# Altium schematic symbol library Mixers.SchLib: 26 symbols
Pins are listed as number, name and electrical type; pins without a type are passive.

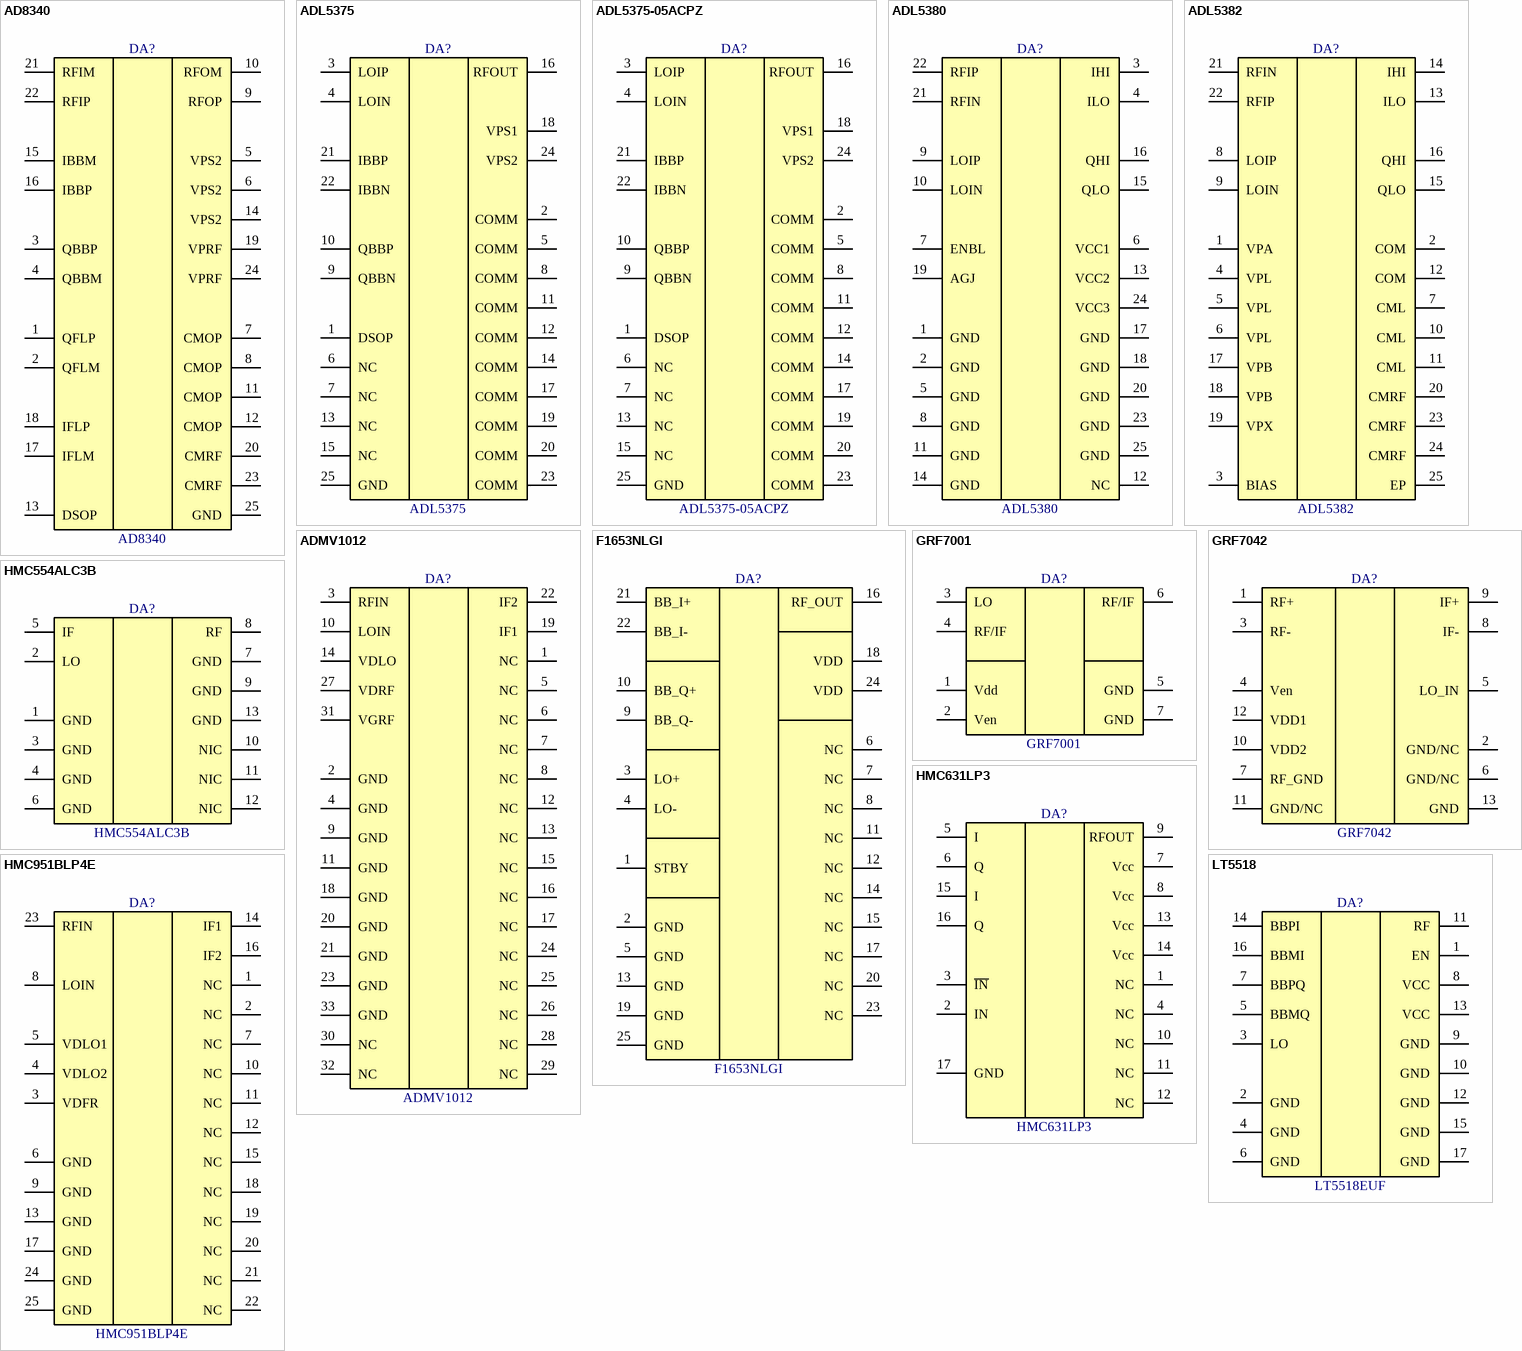
[diagram p0: symbols AD8340 to LT5518]

## AD8340
designator DA?
00 MHz to 1000 MHz RF Vector Modulator; Manufacturer: Analog Devices; PartNumber: AD8340; ComponentLink1Description: Product Page; ComponentLink1URL: https://www.analog.com/en/products/ad8340.html; ComponentLink2Description: DataSheet; ComponentLink2URL: https://www.analog.com/media/en/technical-documentation/data-sheets/AD8340.pdf
footprint QFN50P400X400X80_HS-25N (QFN, 24-Leads, Body 4.00x4.00mm, Pitch 0.50mm, Thermal Pad 2.05x2.05mm, IPC Medium Density)
pins: 1 QFLP, 2 QFLM, 3 QBBP, 4 QBBM, 5 VPS2, 6 VPS2, 7 CMOP, 8 CMOP, 9 RFOP, 10 RFOM, 11 CMOP, 12 CMOP, 13 DSOP, 14 VPS2, 15 IBBM, 16 IBBP, 17 IFLM, 18 IFLP, 19 VPRF, 20 CMRF, 21 RFIM, 22 RFIP, 23 CMRF, 24 VPRF, 25 GND

## ADL5375
designator DA?
00 MHz to 6 GHz Broadband Quadrature Modulator; Manufacturer: Analog Devices; PartNumber: ADL5375; ComponentLink1Description: Product Page; ComponentLink1URL: https://www.analog.com/en/products/adl5375.html; ComponentLink2Description: DataSheet; ComponentLink2URL: https://www.analog.com/media/en/technical-documentation/data-sheets/ADL5375.pdf
footprint QFN25P50_400X400X80L40X24T250N (Quad Flat No-Lead (QFN with Tab), 0.50 mm pitch; square, 6 pin X 6 pin, 4.00 mm L X 4.00 mm W X 0.80 mm H body)
pins: 1 DSOP, 2 COMM, 3 LOIP, 4 LOIN, 5 COMM, 6 NC, 7 NC, 8 COMM, 9 QBBN, 10 QBBP, 11 COMM, 12 COMM, 13 NC, 14 COMM, 15 NC, 16 RFOUT, 17 COMM, 18 VPS1, 19 COMM, 20 COMM, 21 IBBP, 22 IBBN, 23 COMM, 24 VPS2, 25 GND

## ADL5375-05ACPZ
designator DA?
00 MHz to 6 GHz Broadband Quadrature Modulator, 500mA Bias; Manufacturer: Analog Devices; PartNumber: ADL5375-05ACPZ; ComponentLink1Description: Product Page; ComponentLink1URL: https://www.analog.com/en/products/adl5375.html; ComponentLink2Description: DataSheet; ComponentLink2URL: https://www.analog.com/media/en/technical-documentation/data-sheets/ADL5375.pdf
footprint QFN25P50_400X400X80L40X24T250N (Quad Flat No-Lead (QFN with Tab), 0.50 mm pitch; square, 6 pin X 6 pin, 4.00 mm L X 4.00 mm W X 0.80 mm H body)
pins: 1 DSOP, 2 COMM, 3 LOIP, 4 LOIN, 5 COMM, 6 NC, 7 NC, 8 COMM, 9 QBBN, 10 QBBP, 11 COMM, 12 COMM, 13 NC, 14 COMM, 15 NC, 16 RFOUT, 17 COMM, 18 VPS1, 19 COMM, 20 COMM, 21 IBBP, 22 IBBN, 23 COMM, 24 VPS2, 25 GND

## ADL5380
designator DA?
400 MHz to 6 GHz Quadrature Demodulator; Manufacturer: Analog Devices; PartNumber: ADL5380; ComponentLink1Description: Product Page; ComponentLink1URL: https://www.analog.com/en/products/adl5380.html; ComponentLink2Description: DataSheet; ComponentLink2URL: https://www.analog.com/media/en/technical-documentation/data-sheets/ADL5380.pdf
footprint QFN25P50_400X400X80L40X24T255N (Quad Flat No-Lead (QFN with Tab), 0.50 mm pitch; square, 6 pin X 6 pin, 4.00 mm L X 4.00 mm W X 0.80 mm H body)
pins: 1 GND, 2 GND, 3 IHI, 4 ILO, 5 GND, 6 VCC1, 7 ENBL, 8 GND, 9 LOIP, 10 LOIN, 11 GND, 12 NC, 13 VCC2, 14 GND, 15 QLO, 16 QHI, 17 GND, 18 GND, 19 AGJ, 20 GND, 21 RFIN, 22 RFIP, 23 GND, 24 VCC3, 25 GND

## ADL5382
designator DA?
700 MHz to 2.7 GHz Quadrature Demodulator; Manufacturer: Analog Devices; PartNumber: ADL5382; ComponentLink1Description: Product Page; ComponentLink1URL: https://www.analog.com/en/products/adl5382.html; ComponentLink2Description: DataSheet; ComponentLink2URL: https://www.analog.com/media/en/technical-documentation/data-sheets/ADL5382.pdf
footprint ADL5382 (AD 24-Lead Lead Frame Chip Scale Package  [LFCSP_VQ] 4 mm ? 4 mm Body, Very Thin Quad  (CP-24-2))
pins: 1 VPA, 2 COM, 3 BIAS, 4 VPL, 5 VPL, 6 VPL, 7 CML, 8 LOIP, 9 LOIN, 10 CML, 11 CML, 12 COM, 13 ILO, 14 IHI, 15 QLO, 16 QHI, 17 VPB, 18 VPB, 19 VPX, 20 CMRF, 21 RFIN, 22 RFIP, 23 CMRF, 24 CMRF, 25 EP

## ADMV1012
designator DA?
17.5 GHz to 24 GHz, GaAs, MMIC, I/Q Downconverter; Manufacturer: Analog Devices; PartNumber: ADMV1012; ComponentLink1Description: Product Page; ComponentLink1URL: https://www.analog.com/en/products/admv1012.html; ComponentLink2Description: DataSheet; ComponentLink2URL: https://www.analog.com/media/en/technical-documentation/data-sheets/admv1012.pdf
footprint PQFN33P50_490X490X110L32X30T350N (Pullback Quad Flat No-Lead (PQFN with Tab), 0.50 mm pitch; square, 8 pin X 8 pin, 4.90 mm L X 4.90 mm W X 1.10 mm H body)
pins: 1 NC, 2 GND, 3 RFIN, 4 GND, 5 NC, 6 NC, 7 NC, 8 NC, 9 GND, 10 LOIN, 11 GND, 12 NC, 13 NC, 14 VDLO, 15 NC, 16 NC, 17 NC, 18 GND, 19 IF1, 20 GND, 21 GND, 22 IF2, 23 GND, 24 NC, 25 NC, 26 NC, 27 VDRF, 28 NC, 29 NC, 30 NC, 31 VGRF, 32 NC, 33 GND

## F1653NLGI
designator DA?
Broadband ZIF/CIF I/Q Modulator for High Order LTE MIMO Systems; Manufacturer: Renesas; PartNumber: F1653NLGI; ComponentLink1Description: Product Page; ComponentLink1URL: https://www.renesas.com/us/en/products/rf-products/modulators-demodulators/f1653-broadband-zifcif-iq-modulator-high-order-lte-mimo-systems; ComponentLink2Description: DataSheet; ComponentLink2URL: https://www.renesas.com/us/en/document/dst/f1653-datasheet-revo?r=162266
footprint QFN25P50_400X400X100L40X24T245N (Quad Flat No-Lead (QFN with Tab), 0.50 mm pitch; square, 6 pin X 6 pin, 4.00 mm L X 4.00 mm W X 1.00 mm H body)
pins: 1 STBY, 2 GND, 3 LO+, 4 LO-, 5 GND, 6 NC, 7 NC, 8 NC, 9 BB_Q-, 10 BB_Q+, 11 NC, 12 NC, 13 GND, 14 NC, 15 NC, 16 RF_OUT, 17 NC, 18 VDD, 19 GND, 20 NC, 21 BB_I+, 22 BB_I-, 23 NC, 24 VDD, 25 GND

## GRF7001
designator DA?
High Linearity Mixer with / Integrated LO Buffer; Manufacturer: Guerilla RF; PartNumber: GRF7001; ComponentLink1Description: Product Page; ComponentLink1URL: https://www.guerrilla-rf.com/products/detail/sku/GRF7001; ComponentLink2Description: DataSheet; ComponentLink2URL: https://www.guerrilla-rf.com/products/DataSheet?sku=7001&file_name=GRF7001DS.pdf
footprint GRF7001
pins: 1 Vdd, 2 Ven, 3 LO, 4 RF/IF, 5 GND, 6 RF/IF, 7 GND

## GRF7042
designator DA?
Double-Balanced Mixer with Integrated LO Buffer; Manufacturer: Guerilla RF; PartNumber: GRF7042; ComponentLink1Description: Product Page; ComponentLink1URL: https://www.guerrilla-rf.com/products/detail/sku/GRF7042; ComponentLink2Description: DataSheet; ComponentLink2URL: https://www.guerrilla-rf.com/products/DataSheet?sku=7042&file_name=GRF7042DS.pdf
footprint GRF7042 (Quad Flat No-Lead (QFN with Tab), 0.50 mm pitch; square, 3 pin X 3 pin, 2.00 mm L X 2.00 mm W X 0.50 mm H body)
pins: 1 RF+, 2 GND/NC, 3 RF-, 4 Ven, 5 LO_IN, 6 GND/NC, 7 RF_GND, 8 IF-, 9 IF+, 10 VDD2, 11 GND/NC, 12 VDD1, 13 GND

## HMC554ALC3B
designator DA?
10 GHz to 20 GHz, GaAs, MMIC, Double Balanced Mixer; Manufacturer: Analog Devices; PartNumber: HMC554ALC3B; ComponentLink1Description: Product Page; ComponentLink1URL: https://www.analog.com/en/products/hmc554alc3b.html; ComponentLink2Description: DataSheet; ComponentLink2URL: https://www.analog.com/media/en/technical-documentation/data-sheets/hmc554a.pdf
footprint PQFN13P50_290X290X90L32X30T150N (Pullback Quad Flat No-Lead (PQFN with Tab), 0.50 mm pitch; square, 3 pin X 3 pin, 2.90 mm L X 2.90 mm W X 0.90 mm H body)
pins: 1 GND, 2 LO, 3 GND, 4 GND, 5 IF, 6 GND, 7 GND, 8 RF, 9 GND, 10 NIC, 11 NIC, 12 NIC, 13 GND

## HMC631LP3
designator DA?
GaAs HBT VECTOR MODULATOR 1.8 - 2.7 GHz; Manufacturer: Analog Devices; PartNumber: HMC631LP3; ComponentLink1Description: Product Page; ComponentLink1URL: https://www.analog.com/en/products/hmc631.html; ComponentLink2Description: DataSheet; ComponentLink2URL: https://www.analog.com/media/en/technical-documentation/data-sheets/hmc631.pdf
footprint QFN17P50_300X300X100L40X24T173N (Quad Flat No-Lead (QFN with Tab), 0.50 mm pitch; square, 4 pin X 4 pin, 3.00 mm L X 3.00 mm W X 1.00 mm H body)
pins: 1 NC, 2 IN, 3 ~{IN}, 4 NC, 5 I, 6 Q, 7 Vcc, 8 Vcc, 9 RFOUT, 10 NC, 11 NC, 12 NC, 13 Vcc, 14 Vcc, 15 I, 16 Q, 17 GND

## HMC951BLP4E
designator DA?
GaAs MMIC I/Q Downconverter 5.6 - 8.6 GHz; Manufacturer: Analog Devices; PartNumber: HMC951BLP4E; ComponentLink1Description: Product Page; ComponentLink1URL: https://www.analog.com/en/products/hmc951b.html; ComponentLink2Description: DataSheet; ComponentLink2URL: https://www.analog.com/media/en/technical-documentation/data-sheets/HMC951B.pdf
footprint QFN25P50_400X400X100L40X24T280N (Quad Flat No-Lead (QFN with Tab), 0.50 mm pitch; square, 6 pin X 6 pin, 4.00 mm L X 4.00 mm W X 1.00 mm H body)
pins: 1 NC, 2 NC, 3 VDFR, 4 VDLO2, 5 VDLO1, 6 GND, 7 NC, 8 LOIN, 9 GND, 10 NC, 11 NC, 12 NC, 13 GND, 14 IF1, 15 NC, 16 IF2, 17 GND, 18 NC, 19 NC, 20 NC, 21 NC, 22 NC, 23 RFIN, 24 GND, 25 GND

## LT5518
designator DA?, comment LT5518EUF
1.5GHz–2.4GHz High Linearity Direct Quadrature Modulator; Manufacturer: Analog Devices; PartNumber: LT5518EUF; ComponentLink1Description: Product Page; ComponentLink1URL: https://www.analog.com/en/products/lt5518.html; ComponentLink2Description: DataSheet; ComponentLink2URL: https://www.analog.com/media/en/technical-documentation/data-sheets/5518f.pdf
footprint QFN17P65_400X400X80L55X30T215N (Quad Flat No-Lead (QFN with Tab), 0.65 mm pitch; square, 4 pin X 4 pin, 4.00 mm L X 4.00 mm W X 0.80 mm H body)
pins: 1 EN, 2 GND, 3 LO, 4 GND, 5 BBMQ, 6 GND, 7 BBPQ, 8 VCC, 9 GND, 10 GND, 11 RF, 12 GND, 13 VCC, 14 BBPI, 15 GND, 16 BBMI, 17 GND

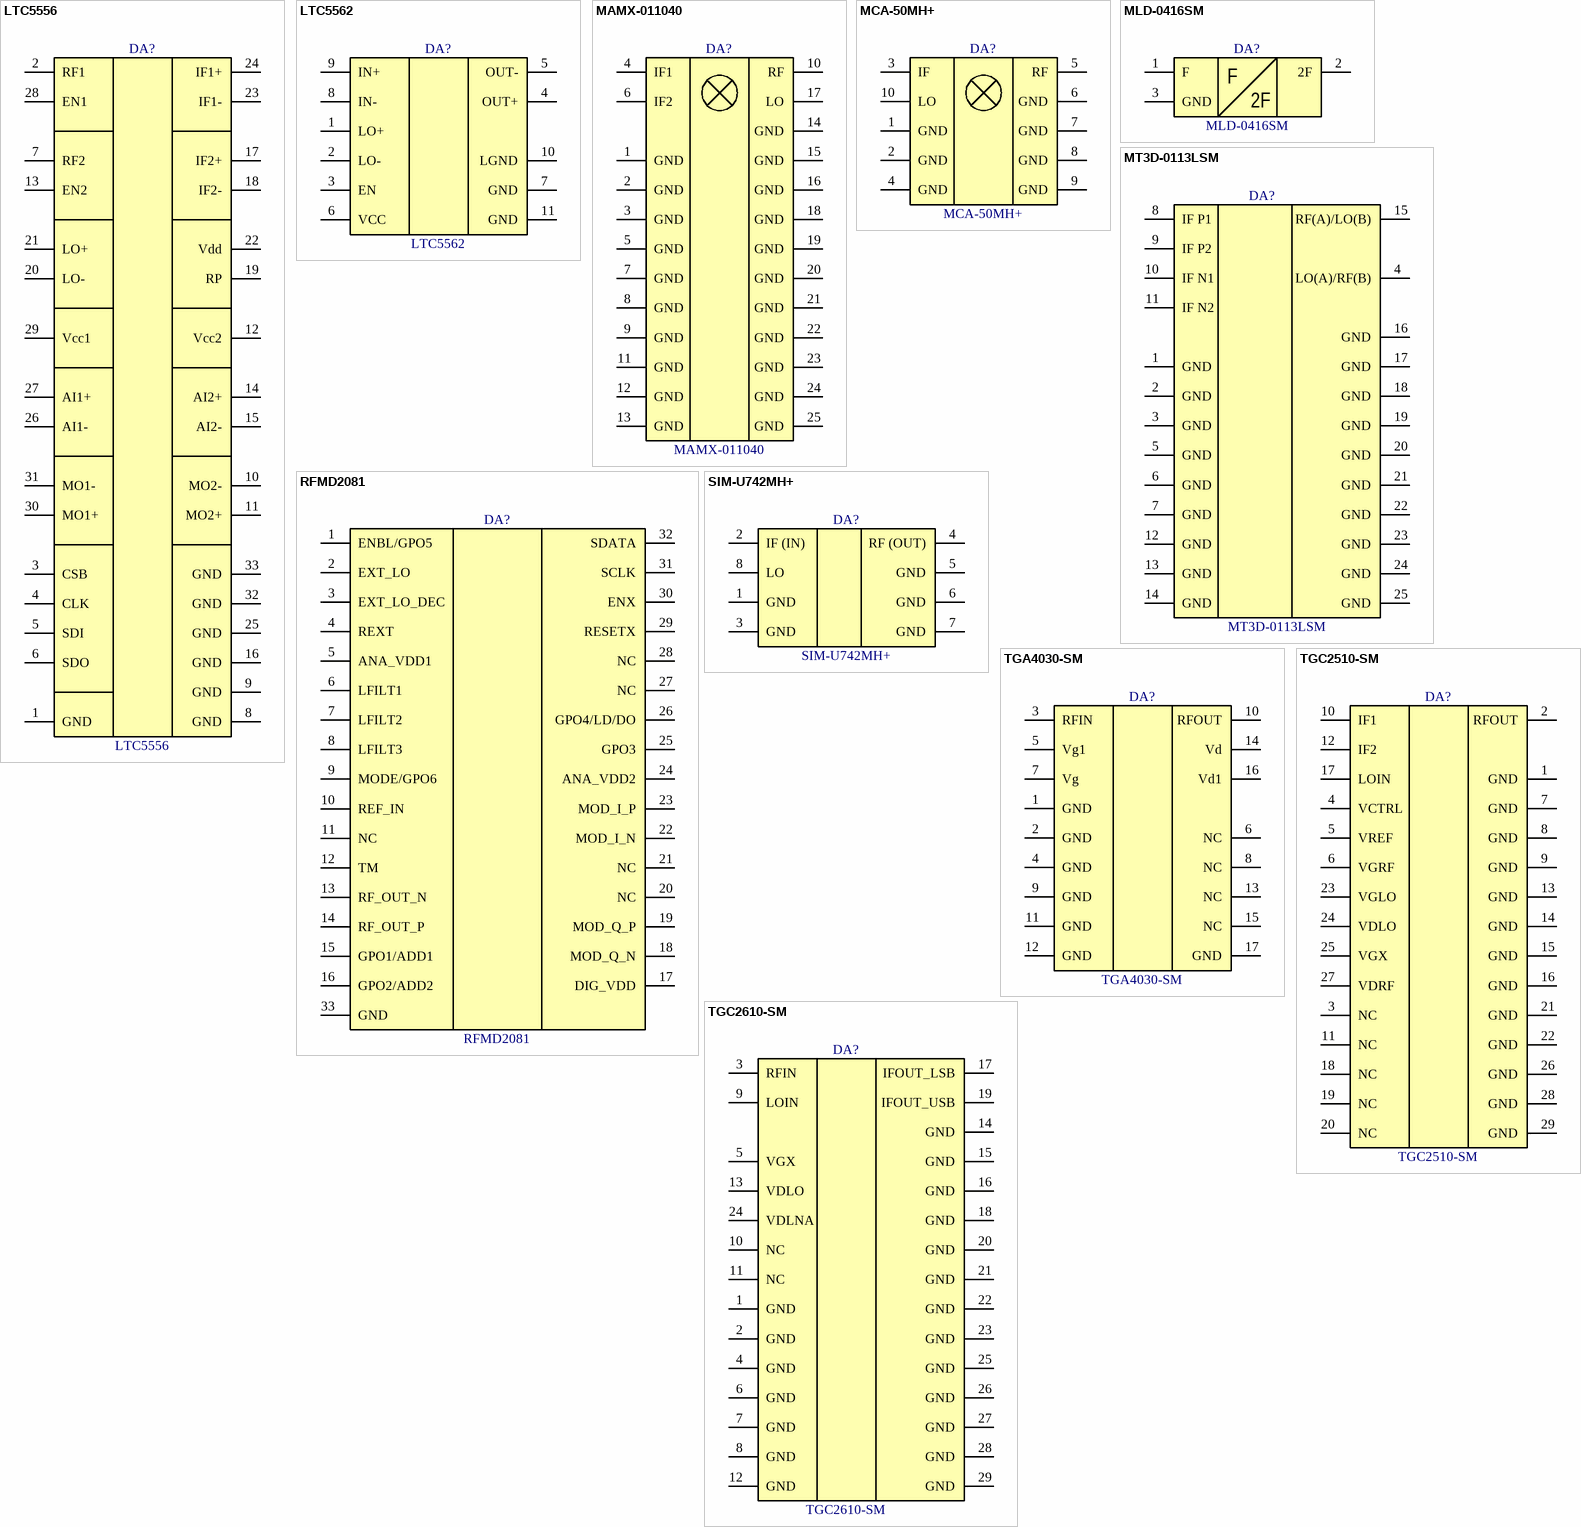
[diagram p1: symbols LTC5556 to TGC2610-SM]

## LTC5556
designator DA?
1.5GHz to 7GHz Dual / Programmable Gain / Downconverting Mixer; Manufacturer: Analog Devices; PartNumber: LTC5556; ComponentLink1Description: Product Page; ComponentLink1URL: https://www.analog.com/en/products/ltc5556.html; ComponentLink2Description: DataSheet; ComponentLink2URL: https://www.analog.com/media/en/technical-documentation/data-sheets/ltc5556.pdf
footprint LTC5556
pins: 1 GND, 2 RF1, 3 CSB, 4 CLK, 5 SDI, 6 SDO, 7 RF2, 8 GND, 9 GND, 10 MO2-, 11 MO2+, 12 Vcc2, 13 EN2, 14 AI2+, 15 AI2-, 16 GND, 17 IF2+, 18 IF2-, 19 RP, 20 LO-, 21 LO+, 22 Vdd, 23 IF1-, 24 IF1+, 25 GND, 26 AI1-, 27 AI1+, 28 EN1, 29 Vcc1, 30 MO1+, 31 MO1-, 32 GND, 33 GND

## LTC5562
designator DA?
Wideband Low Power Active Mixer LF–7GHz; Manufacturer: Analog Devices; PartNumber: LTC5562; ComponentLink1Description: Product Page; ComponentLink1URL: https://www.analog.com/en/products/ltc5562.html; ComponentLink2Description: DataSheet; ComponentLink2URL: https://www.analog.com/media/en/technical-documentation/data-sheets/5562f.pdf
footprint QFN11P50_200X200X80L40X25T50X30N (Quad Flat No-Lead (QFN with Tab), 0.50 mm pitch; square, 2 pin X 3 pin, 2.00 mm L X 2.00 mm W X 0.80 mm H body)
pins: 1 LO+, 2 LO-, 3 EN, 4 OUT+, 5 OUT-, 6 VCC, 7 GND, 8 IN-, 9 IN+, 10 LGND, 11 GND

## MAMX-011040
designator DA?
Image Reject Mixer 8 - 26 GHz; Manufacturer: MACOM; PartNumber: MAMX-011040; ComponentLink1Description: Product Page; ComponentLink1URL: https://www.macom.com/products/product-detail/MAMX-011040; ComponentLink2Description: DataSheet; ComponentLink2URL: https://cdn.macom.com/datasheets/MAMX-011040.pdf
footprint QFN25P50_400X400X120L40X30T200N (Quad Flat No-Lead (QFN with Tab), 0.50 mm pitch; square, 6 pin X 6 pin, 4.00 mm L X 4.00 mm W X 1.20 mm H body)
pins: 1 GND, 2 GND, 3 GND, 4 IF1, 5 GND, 6 IF2, 7 GND, 8 GND, 9 GND, 10 RF, 11 GND, 12 GND, 13 GND, 14 GND, 15 GND, 16 GND, 17 LO, 18 GND, 19 GND, 20 GND, 21 GND, 22 GND, 23 GND, 24 GND, 25 GND

## MCA-50MH+
designator DA?
High IP3 Frequency Mixer wide band Level 13 (LO Power+13 dBm) 1000 to 5000 MHz; Manufacturer: Mini-Circuits; PartNumber: MCA-50MH+; ComponentLink1Description: Product Page; ComponentLink1URL: https://www.minicircuits.com/WebStore/dashboard.html?model=MCA-50MH%2B; ComponentLink2Description: DataSheet; ComponentLink2URL: https://www.minicircuits.com/WebStore/dashboardPdf?model=MCA-50MH%2B
footprint DZ883 (Mini-Circuits case DZ883)
pins: 1 GND, 2 GND, 3 IF, 4 GND, 5 RF, 6 GND, 7 GND, 8 GND, 9 GND, 10 LO

## MLD-0416SM
designator DA?
Frequency Doubler 2.0-8.0 GHz; Manufacturer: Marki; PartNumber: MLD-0416SM; ComponentLink1Description: Product Page; ComponentLink1URL: https://www.markimicrowave.com/multipliers/mld-0416sm.aspx; ComponentLink2Description: DataSheet; ComponentLink2URL: https://www.markimicrowave.com/Assets/datasheets/MLD-0416SM.pdf
footprint MLD-0416SM (Marki SMT (0.152” x 0.090” x 0.045”))
pins: 1 F, 2 2F, 3 GND

## MT3D-0113LSM
designator DA?
GaAs MMIC T3 Mixer with Differential IF; Manufacturer: Marki; PartNumber: MT3D-0113LSM; ComponentLink1Description: Product Page; ComponentLink1URL: https://www.markimicrowave.com/mixers/mt3d-0113lsm.aspx; ComponentLink2Description: DataSheet; ComponentLink2URL: https://www.markimicrowave.com/Assets/DataSheets/MT3D-0113LSM.pdf?v=111422
footprint QFN50P390X390X90_HS-25N (QFN, 24-Leads, Body 3.90x3.90mm, Pitch 0.50mm, Thermal Pad 2.50x2.50mm, IPC Medium Density)
pins: 1 GND, 2 GND, 3 GND, 4 LO(A)/RF(B), 5 GND, 6 GND, 7 GND, 8 IF P1, 9 IF P2, 10 IF N1, 11 IF N2, 12 GND, 13 GND, 14 GND, 15 RF(A)/LO(B), 16 GND, 17 GND, 18 GND, 19 GND, 20 GND, 21 GND, 22 GND, 23 GND, 24 GND, 25 GND

## RFMD2081
designator DA?
45MHz TO 2700MHz IQ MODULATOR WITH SYNTHESIZER/VCO; Manufacturer: Qorvo; PartNumber: RFMD2081; ComponentLink1Description: Product Page; ComponentLink1URL: https://www.qorvo.com/products/p/RFMD2081; ComponentLink2Description: DataSheet; ComponentLink2URL: https://www.qorvo.com/products/d/da000929
footprint QFN50P500X500X95_HS-33N (QFN, 32-Leads, Body 5.00x5.00mm, Pitch 0.50mm, Thermal Pad 3.70x3.70mm, IPC Medium Density)
pins: 1 ENBL/GPO5, 2 EXT_LO, 3 EXT_LO_DEC, 4 REXT, 5 ANA_VDD1, 6 LFILT1, 7 LFILT2, 8 LFILT3, 9 MODE/GPO6, 10 REF_IN, 11 NC, 12 TM, 13 RF_OUT_N, 14 RF_OUT_P, 15 GPO1/ADD1, 16 GPO2/ADD2, 17 DIG_VDD, 18 MOD_Q_N, 19 MOD_Q_P, 20 NC, 21 NC, 22 MOD_I_N, 23 MOD_I_P, 24 ANA_VDD2, 25 GPO3, 26 GPO4/LD/DO, 27 NC, 28 NC, 29 RESETX, 30 ENX, 31 SCLK, 32 SDATA, 33 GND

## SIM-U742MH+
designator DA?
Up Converter Level 13  (LO Power +13 dBm)   0.1 to 7400 MHz; Manufacturer: Mini-Circuits; PartNumber: SIM-U742MH+; ComponentLink1Description: Product Page; ComponentLink1URL: https://www.minicircuits.com/WebStore/dashboard.html?model=SIM-U742MH%2B; ComponentLink2Description: DataSheet; ComponentLink2URL: https://www.minicircuits.com/WebStore/dashboardPdf?model=SIM-U742MH%2B
footprint HV1195 (Mini-Circuits CASE HV1195)
pins: 1 GND, 2 IF (IN), 3 GND, 4 RF (OUT), 5 GND, 6 GND, 7 GND, 8 LO

## TGA4030-SM
designator DA?
17 – 37 GHz MPA/Multiplier; Manufacturer: Qorvo; PartNumber: TGA4030-SM; ComponentLink1Description: Product Page; ComponentLink1URL: https://www.qorvo.com/products/p/TGA4030-SM; ComponentLink2Description: DataSheet; ComponentLink2URL: https://www.qorvo.com/products/d/da004461
footprint QFN17P50_300X300X115L40X25T170N (Quad Flat No-Lead (QFN with Tab), 0.50 mm pitch; square, 4 pin X 4 pin, 3.00 mm L X 3.00 mm W X 1.15 mm H body)
pins: 1 GND, 2 GND, 3 RFIN, 4 GND, 5 Vg1, 6 NC, 7 Vg, 8 NC, 9 GND, 10 RFOUT, 11 GND, 12 GND, 13 NC, 14 Vd, 15 NC, 16 Vd1, 17 GND

## TGC2510-SM
designator DA?
Ku-Band Upconverter; Manufacturer: Qorvo; PartNumber: TGC2510-SM; ComponentLink1Description: Product Page; ComponentLink1URL: https://www.qorvo.com/products/p/TGC2510-SM; ComponentLink2Description: DataSheet; ComponentLink2URL: https://www.qorvo.com/products/d/da004760
footprint TGC2510-SM
pins: 1 GND, 2 RFOUT, 3 NC, 4 VCTRL, 5 VREF, 6 VGRF, 7 GND, 8 GND, 9 GND, 10 IF1, 11 NC, 12 IF2, 13 GND, 14 GND, 15 GND, 16 GND, 17 LOIN, 18 NC, 19 NC, 20 NC, 21 GND, 22 GND, 23 VGLO, 24 VDLO, 25 VGX, 26 GND, 27 VDRF, 28 GND, 29 GND

## TGC2610-SM
designator DA?
10 GHz – 15.4 GHz Downconverter; Manufacturer: Qorvo; PartNumber: TGC2610-SM; ComponentLink1Description: Product Page; ComponentLink1URL: https://www.qorvo.com/products/p/TGC2610-SM; ComponentLink2Description: DataSheet; ComponentLink2URL: https://www.qorvo.com/products/d/da004765
footprint TGC2610-SM
pins: 1 GND, 2 GND, 3 RFIN, 4 GND, 5 VGX, 6 GND, 7 GND, 8 GND, 9 LOIN, 10 NC, 11 NC, 12 GND, 13 VDLO, 14 GND, 15 GND, 16 GND, 17 IFOUT_LSB, 18 GND, 19 IFOUT_USB, 20 GND, 21 GND, 22 GND, 23 GND, 24 VDLNA, 25 GND, 26 GND, 27 GND, 28 GND, 29 GND

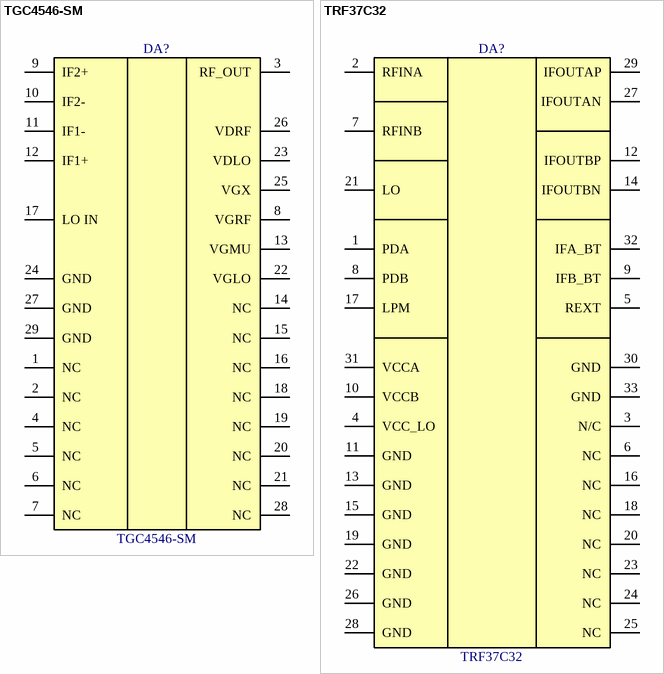
[diagram p2: symbols TGC4546-SM to TRF37C32]

## TGC4546-SM
designator DA?
36 – 45 GHz Upconverter with Quadrupler; Manufacturer: Qorvo; PartNumber: TGC4546-SM; ComponentLink1Description: Product Page; ComponentLink1URL: https://www.qorvo.com/products/p/TGC4546-SM; ComponentLink2Description: DataSheet; ComponentLink2URL: https://www.qorvo.com/products/d/da004794
footprint TGC4546-SM (TriQuint TGC4546-SM)
pins: 1 NC, 2 NC, 3 RF_OUT, 4 NC, 5 NC, 6 NC, 7 NC, 8 VGRF, 9 IF2+, 10 IF2-, 11 IF1-, 12 IF1+, 13 VGMU, 14 NC, 15 NC, 16 NC, 17 LO IN, 18 NC, 19 NC, 20 NC, 21 NC, 22 VGLO, 23 VDLO, 24 GND, 25 VGX, 26 VDRF, 27 GND, 28 NC, 29 GND

## TRF37C32
designator DA?
1700M-3800MHz Dual Down Converter Mixer with Integrated IF Amp; Manufacturer: Texas Instruments; PartNumber: TRF37C32; ComponentLink1Description: Product Page; ComponentLink1URL: https://www.ti.com/product/TRF37C32; ComponentLink2Description: DataSheet; ComponentLink2URL: https://www.ti.com/lit/gpn/trf37c32
footprint QFN50P500X500X80_HS-33N (QFN, 32-Leads, Body 5.00x5.00mm, Pitch 0.50mm, Thermal Pad 3.65x3.65mm, IPC Medium Density)
pins: 1 PDA, 2 RFINA, 3 N/C, 4 VCC_LO, 5 REXT, 6 NC, 7 RFINB, 8 PDB, 9 IFB_BT, 10 VCCB, 11 GND, 12 IFOUTBP, 13 GND, 14 IFOUTBN, 15 GND, 16 NC, 17 LPM, 18 NC, 19 GND, 20 NC, 21 LO, 22 GND, 23 NC, 24 NC, 25 NC, 26 GND, 27 IFOUTAN, 28 GND, 29 IFOUTAP, 30 GND, 31 VCCA, 32 IFA_BT, 33 GND